# EAGLE library part MAX7219 (library SCK_custom)
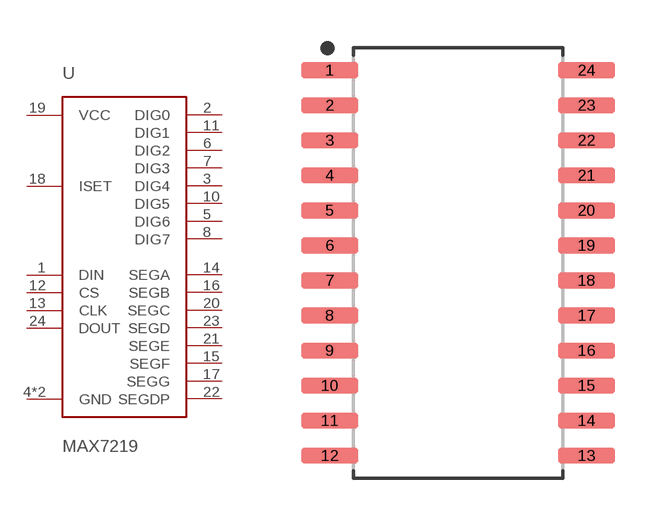
[diagram p1: symbol with the pads of SOIC127P1032X265-24; footprint SOIC127P1032X265-24]

Designator prefix -

## MAX7219  [SOIC127P1032X265-24]
1  DIN  in
2  DIG0  out
3  DIG4  out
4  GND  pwr
5  DIG6  out
6  DIG2  out
7  DIG3  out
8  DIG7  out
9  GND  pwr
10  DIG5  out
11  DIG1  out
12  CS  in
13  CLK  in
14  SEGA  out
15  SEGF  out
16  SEGB  out
17  SEGG  out
18  ISET  in
19  VCC  pwr
20  SEGC  out
21  SEGE  out
22  SEGDP  out
23  SEGD  out
24  DOUT  out

## Footprint SOIC127P1032X265-24 (pad centres in mm)
24-SOIC, 1.27 mm pitch, 10.32 mm span, 15.40 X 7.50 X 2.65 mm body 24-pin SOIC package with 1.27 mm pitch, 10.32 mm span with body size 15.40 X 7.50 X 2.65 mm
smd 2.052 x 0.589: 1 -4.654,6.985; 2 -4.654,5.715; 3 -4.654,4.445; 4 -4.654,3.175; 5 -4.654,1.905; 6 -4.654,0.635; 7 -4.654,-0.635; 8 -4.654,-1.905; 9 -4.654,-3.175; 10 -4.654,-4.445; 11 -4.654,-5.715; 12 -4.654,-6.985; 13 4.654,-6.985; 14 4.654,-5.715; 15 4.654,-4.445; 16 4.654,-3.175; 17 4.654,-1.905; 18 4.654,-0.635; 19 4.654,0.635; 20 4.654,1.905; 21 4.654,3.175; 22 4.654,4.445; 23 4.654,5.715; 24 4.654,6.985